# Altium footprint library SC_TO220-5.PcbLib: 1 footprints
Each footprint in its own frame and in the unit in brackets; x right, y up, seen from the top. Pads: shape width x height; smd on the part's side, far side on the other; paste and mask are expansions set on the pad; w line width, h text height; cw(c..) or ccw(c..) is an arc to the next point about the centre after c.
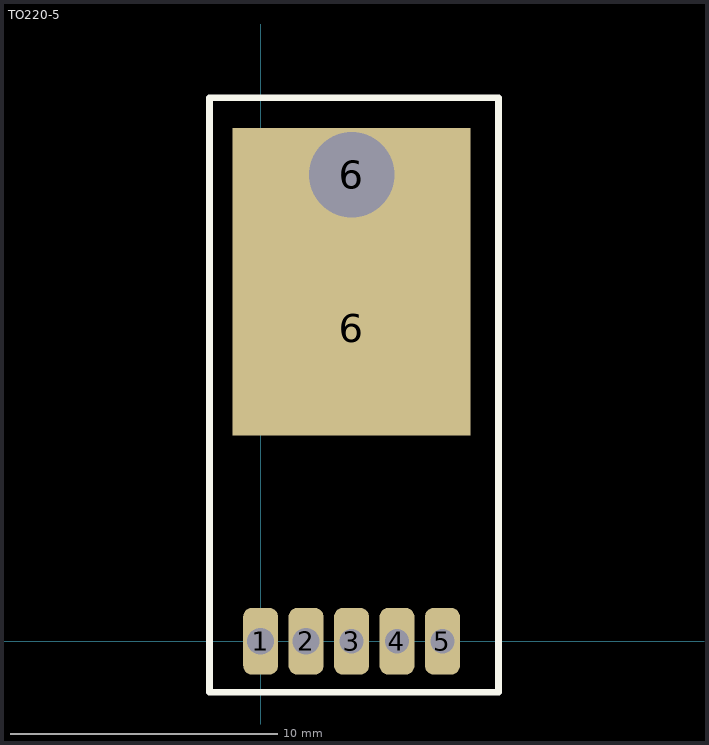
[diagram p0: the footprint, top view; thin cyan lines are the x and y axes]

## TO220-5 [mm] "TO220-5"
pads (8):
  rrect50% 1.3x2.5 hole 1: 1(0,0) 1(0,0) 2(1.7,0)
  rrect50% 1.3x2.5 hole 0.9: 3(3.4,0) 4(5.1,0) 5(6.8,0)
  rect 8.9x8 / inner rect 0x0 / far side rect 0x0 all layers, no hole: 6(3.4,11.7)
  rect 8.9x3.5 / inner round 6.4 / far side round 6.4 hole 3.2: 6(3.402,17.437)
Top Overlay:
  lines w0.254: -1.905,-1.905 -1.905,20.32 8.89,20.32 8.89,-1.905 -1.905,-1.905
3D body: height 4.52, standoff -5.97, extent -1.678,-0.19 8.484,19.977